# EAGLE library part CONN_FFC_1X08 (library GPLIB_CONN)
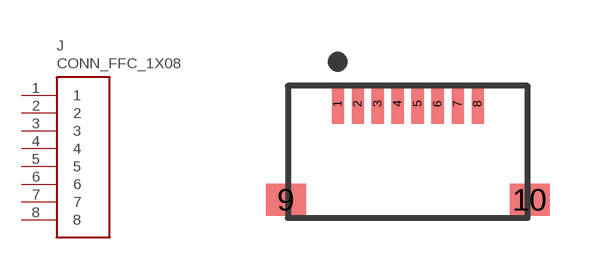
[diagram p51: symbol with the pads of CONN_FFC_1X08_0.5MM_SM_RA; footprint CONN_FFC_1X08_0.5MM_SM_RA]

Designator prefix J

## CONN_FFC_1X08_0.5MM_RA_SMT_AFH34-S08FIA-1H  [CONN_FFC_1X08_0.5MM_SM_RA]
1  1  pas
2  2  pas
3  3  pas
4  4  pas
5  5  pas
6  6  pas
7  7  pas
8  8  pas

## Footprint CONN_FFC_1X08_0.5MM_SM_RA (pad centres in mm)
smd 0.3 x 1: 1 -1.75,1.2; 2 -1.25,1.2; 3 -0.75,1.2; 4 -0.25,1.2; 5 0.25,1.2; 6 0.75,1.2; 7 1.25,1.2; 8 1.75,1.2
smd 1 x 0.8: 9 -3.05,-1.2; 10 3.05,-1.2